# EAGLE library part BQ24072TRGTR (library Battery Chargers)
Charger IC Lithium-Ion 16-QFN (3x3) Manufacturer's datasheet <https://www.ti.com/lit/ds/slus937c/slus937c.pdf?ts=1594288910704>
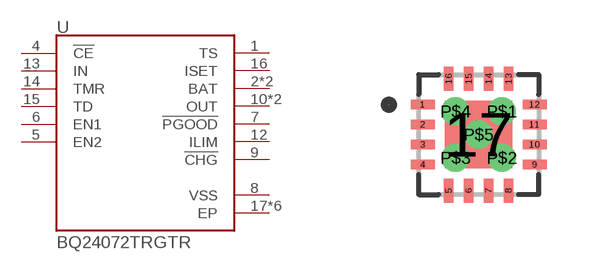
[diagram p19: symbol with the pads of BQ24072TRGTR; footprint BQ24072TRGTR]

Designator prefix U

## BQ24072TRGTR (CREATED_BY: PCBLayout.com; DIGIKEY_PART_NUMBER: 296-27328-1-ND; MANUFACTURER: Texas Instruments; MPN: BQ24072TRGTR; PACKAGE: 16-QFN)  [BQ24072TRGTR]
1  TS
2  BAT
3  BAT
4  !CE  in
5  EN2  in
6  EN1  in
7  !PGOOD  out
8  VSS  pwr
9  !CHG  out
10  OUT  out
11  OUT  out
12  ILIM  out
13  IN  in
14  TMR  in
15  TD  in
16  ISET
17  EP  pwr
P$1  EP  pwr
P$2  EP  pwr
P$3  EP  pwr
P$4  EP  pwr
P$5  EP  pwr

## Footprint BQ24072TRGTR (pad centres in mm)
smd 0.6 x 0.24: 1 -1.4,0.75; 2 -1.4,0.25; 3 -1.4,-0.25; 4 -1.4,-0.75; 9 1.4,-0.75; 10 1.4,-0.25; 11 1.4,0.25; 12 1.4,0.75
smd 0.24 x 0.6: 5 -0.75,-1.4; 6 -0.25,-1.4; 7 0.25,-1.4; 8 0.75,-1.4; 13 0.75,1.4; 14 0.25,1.4; 15 -0.25,1.4; 16 -0.75,1.4
smd 1.68 x 1.68: 17 0,0
drill 0.2 pad 0.5: P$1 0.58,0.58; P$2 0.58,-0.58; P$3 -0.58,-0.58; P$4 -0.58,0.58; P$5 0,0